# Altium footprint library Power.PcbLib: 23 footprints (part 2 of 2)
Each footprint in its own frame and in the unit in brackets; x right, y up, seen from the top. Pads: shape width x height; smd on the part's side, far side on the other; paste and mask are expansions set on the pad; w line width, h text height; cw(c..) or ccw(c..) is an arc to the next point about the centre after c.
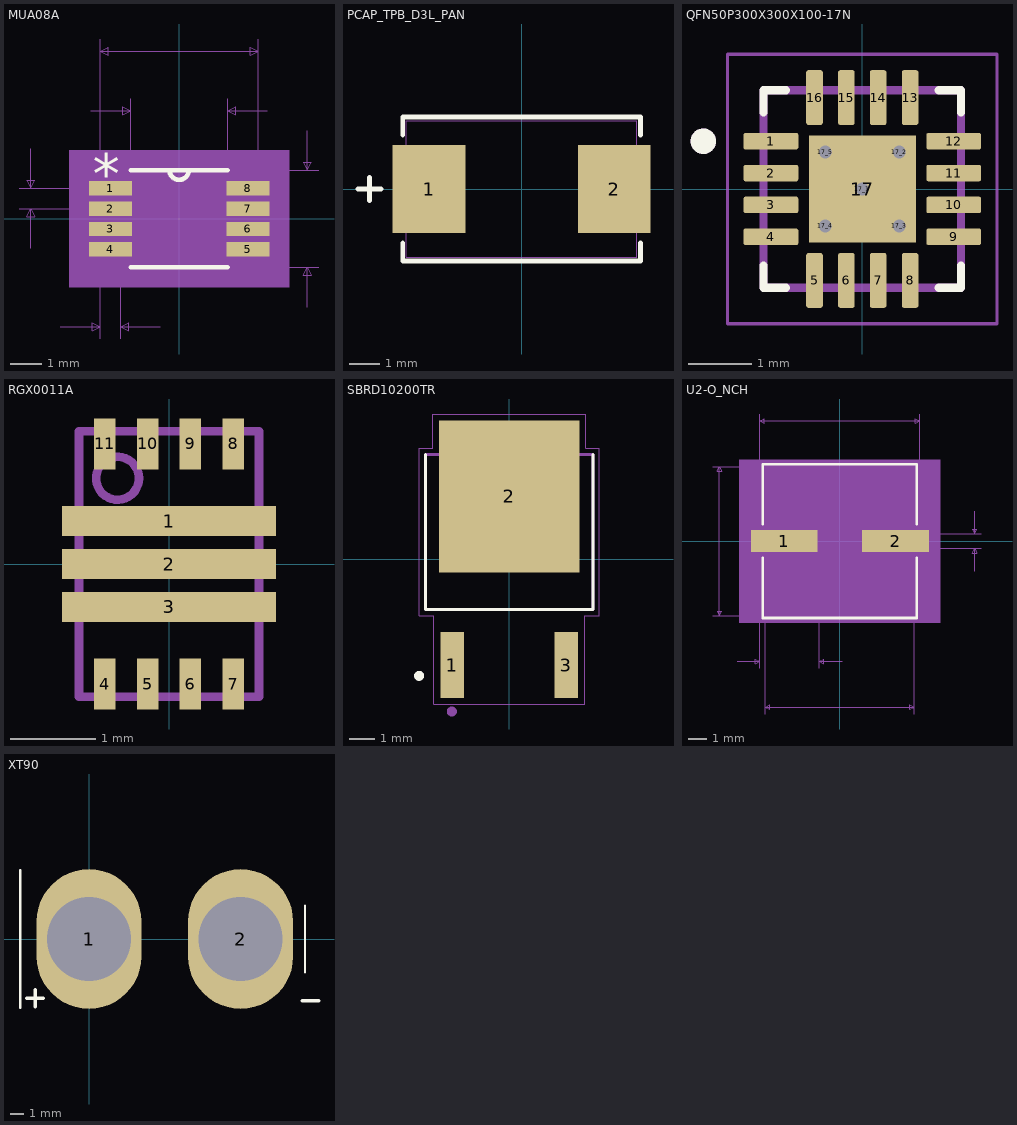
[diagram p1: the footprints below, top view; thin cyan lines are the x and y axes]

## MUA08A [mil]
pads (8):
  rect 54x18 smd mask+4: 1(-86.5,38.39) 2(-86.5,12.8) 3(-86.5,-12.8) 4(-86.5,-38.39) 5(86.5,-38.39) 6(86.5,-12.8) 7(86.5,12.8) 8(86.5,38.39)
Top Overlay:
  lines w6: -61,-61 61,-61 ; -61,61 61,61 ; -12,61 ccw(c0,61) 12,61
  text "*" at -109,32.39 h50
Mechanical 5:
  region: 138.5,-86 -138.5,-86 -138.5,86 138.5,86
Mechanical 7:
  lines w1: -201.5,12.8 -86.5,12.8 ; -201.5,38.39 -86.5,38.39 ; -186.5,-37.2 -186.5,12.8 ; -186.5,88.39 -186.5,38.39 ; -149.5,-136 -99.5,-136 ; -111,136 -61,136 ; -99.5,-151 -99.5,0 -99.5,226 ; -73.5,-151 -73.5,0 ; -61,0 -61,151 ; -23.5,-136 -73.5,-136 ; 0,-61 176,-61 ; 0,61 176,61 ; 61,0 61,151 ; 99.5,0 99.5,226 ; 111,136 61,136 ; 161,-111 161,-61 ; 161,111 161,61 ; -186.5,12.8 -191.5,2.8 -181.5,2.8 -186.5,12.8 ; -186.5,38.39 -191.5,48.39 -181.5,48.39 -186.5,38.39 ; -99.5,-136 -109.5,-131 -109.5,-141 -99.5,-136 ; -99.5,211 99.5,211 ; -99.5,211 -89.5,216 -89.5,206 -99.5,211 ; -73.5,-136 -63.5,-131 -63.5,-141 -73.5,-136 ; -61,136 -71,141 -71,131 -61,136 ; 61,136 71,141 71,131 61,136 ; 99.5,211 89.5,216 89.5,206 99.5,211 ; 161,-61 156,-71 166,-71 161,-61 ; 161,61 156,71 166,71 161,61
  text "Default Padstyle: RX54Y18D0T" at -350,-261 h50
  text ".122in/3.099mm" at -87.5,156 h25
  text ".199in/5.055mm" at -87.5,231 h25
  text ".122in/3.099mm" at 181,-12.5 h25
  text "2.559055E-02in/.65mm" at -456.5,13.09 h25
  text ".026in/.66mm" at -161.5,-181 h25
Mechanical 13:
  lines w0: -12,61 ccw(c0,61) 12,61
  lines w1: -99.5,-46.39 -99.5,-30.39 -61,-30.39 -61,-46.39 -99.5,-46.39 ; -99.5,-20.8 -99.5,-4.8 -61,-4.8 -61,-20.8 -99.5,-20.8 ; -99.5,4.8 -99.5,20.8 -61,20.8 -61,4.8 -99.5,4.8 ; -99.5,30.39 -99.5,46.39 -61,46.39 -61,30.39 -99.5,30.39 ; -61,-61 -61,61 61,61 61,-61 -61,-61 ; 61,-46.39 61,-30.39 99.5,-30.39 99.5,-46.39 61,-46.39 ; 61,-20.8 61,-4.8 99.5,-4.8 99.5,-20.8 61,-20.8 ; 61,4.8 61,20.8 99.5,20.8 99.5,4.8 61,4.8 ; 61,30.39 61,46.39 99.5,46.39 99.5,30.39 61,30.39
  text "*" at -109,32.39 h50
Mechanical 15:
  region: 123.5,-71 -123.5,-71 -123.5,71 123.5,71
  lines w6: -123.5,-71 -123.5,71 123.5,71 123.5,-71 -123.5,-71
3D body: height 10, standoff 0, extent 0,0 10,10

## PCAP_TPB_D3L_PAN [mil]
pads (2):
  rect 94.5x114 smd paste+0 mask+0: 1(-120.25,0) 2(120.25,0)
Top Overlay:
  lines w6: -212.5,0 -182.5,0 ; -197.5,-15 -197.5,15 ; -154.5,-70.1 -154.5,-93.5 154.5,-93.5 154.5,-70.1 ; -154.5,70.1 -154.5,93.5 154.5,93.5 154.5,70.1
Mechanical 13:
  lines w1: -212.5,0 -182.5,0 ; -197.5,-15 -197.5,15 ; -149.5,-88.5 149.5,-88.5 149.5,88.5 -149.5,88.5 -149.5,-88.5
3D body: height 10, standoff 0, extent 0,0 10,10
3D body "PCAP_TPB_D3L_PAN.step": height 118.49, standoff 0.5, extent -149.49,-88.58 149.49,88.59

## QFN50P300X300X100-17N [mm]
pads (22):
  rrect25% 0.86x0.26 smd mask+0: 1(-1.435,0.75) 2(-1.435,0.25) 3(-1.435,-0.25) 4(-1.435,-0.75) 9(1.435,-0.75) 10(1.435,-0.25) 11(1.435,0.25) 12(1.435,0.75)
  rrect25% 0.26x0.86 smd mask+0: 5(-0.75,-1.435) 6(-0.25,-1.435) 7(0.25,-1.435) 8(0.75,-1.435) 13(0.75,1.435) 14(0.25,1.435) 15(-0.25,1.435) 16(-0.75,1.435)
  rect 1.68x1.68 smd paste-2 mask+0: 17(0,0)
  round 0.3 hole 0.2: 17_1(0,0) 17_2(0.58,0.58) 17_3(0.58,-0.58) 17_4(-0.58,-0.58) 17_5(-0.58,0.58)
Top Overlay:
  circle w0.2: c-2.495,0.75 r0.1
  lines w0.127: -1.55,-1.2 -1.55,-1.55 -1.2,-1.55 ; -1.55,1.2 -1.55,1.55 -1.2,1.55 ; 1.2,-1.55 1.55,-1.55 1.55,-1.2 ; 1.2,1.55 1.55,1.55 1.55,1.2
Top Paste:
  region: 0.53,-0.53 -0.53,-0.53 -0.53,0.53 0.53,0.53
Mechanical 13:
  circle w0.2: c-2.495,0.75 r0.1
  lines w0.127: -1.55,-1.55 -1.55,1.55 1.55,1.55 1.55,-1.55 -1.55,-1.55
Mechanical 15:
  lines w0.05: -2.115,-2.115 -2.115,2.115 2.115,2.115 2.115,-2.115 -2.115,-2.115
3D body "RGT0016C.stp": height 1.01, standoff 0.01, extent -1.5,-1.5 1.5,1.5

## RGX0011A [mm]
pads (11):
  rect 2.5x0.35 smd paste-1.237 mask-0.051: 1(0,0.5) 2(0,0) 3(0,-0.5)
  rect 0.25x0.6 smd paste+0 mask+0: 4(-0.75,-1.4) 5(-0.25,-1.4) 6(0.25,-1.4) 7(0.75,-1.4) 8(0.75,1.4) 9(0.25,1.4) 10(-0.25,1.4) 11(-0.75,1.4)
Top Paste:
  drawing of 9 lines, arcs and shapes, not listed
Mechanical 13:
  circle w0.1: c-0.6,1 r0.25
  lines w0.1: -1.05,-1.55 -1.05,1.55 1.05,1.55 1.05,-1.55 -1.05,-1.55
  text ".Designator" at 2.159,-0.509 h1.27
3D body "RGX0011A.stp": height 1.01, standoff 0.01, extent -1,-1.5 1,1.5

## SBRD10200TR [mm]
pads (3):
  rect 0.95x2.64 smd: 1(-2.286,-4.24) 3(2.286,-4.24)
  rect 5.63x6.09 smd: 2(0,2.51)
Top Overlay:
  circle w0.2: c-3.607,-4.674 r0.1
  lines w0.127: -3.35,4.185 -3.35,-2.015 3.35,-2.015 3.35,4.185
Bottom Overlay:
  lines w0.127: 3.35,-2.015 3.35,4.185
Top Paste:
  region: 1.225,3.24 2.535,3.24 2.535,1.78 1.225,1.78
  region: 1.225,5.27 2.535,5.27 2.535,3.81 1.225,3.81
  region: 1.225,1.21 2.535,1.21 2.535,-0.25 1.225,-0.25
  region: -2.535,1.21 -1.225,1.21 -1.225,-0.25 -2.535,-0.25
  region: -2.535,3.24 -1.225,3.24 -1.225,1.78 -2.535,1.78
  region: -2.535,5.27 -1.225,5.27 -1.225,3.81 -2.535,3.81
  region: -0.655,1.21 0.655,1.21 0.655,-0.25 -0.655,-0.25
  region: -0.655,5.27 0.655,5.27 0.655,3.81 -0.655,3.81
  region: -0.655,3.24 0.655,3.24 0.655,1.78 -0.655,1.78
Mechanical 4:
  circle w0.2: c-2.3,-6.1 r0.1
  circle w0.2: c-2.3,-6.1 r0.1
  lines w0.127: -3.35,-2.015 -3.35,4.185 ; -3.35,-2.015 3.35,-2.015 ; -3.35,-2.015 -3.35,4.185 ; -3.35,-2.015 3.35,-2.015 ; -3.35,4.185 3.35,4.185 ; -3.35,4.185 3.35,4.185 ; 3.35,-2.015 3.35,4.185 ; 3.35,-2.015 3.35,4.185
Mechanical 16:
  lines w0.05: -3.6,-2.27 -3.02,-2.27 -3.02,-5.81 3.02,-5.81 3.02,-2.27 3.6,-2.27 3.6,4.44 3.065,4.44 3.065,5.81 -3.065,5.81 -3.065,4.44 -3.6,4.44 -3.6,-2.27

## U2-O_NCH [mil]
pads (2):
  rect 146x48 smd paste+0 mask+0: 1(-122,0) 2(122,0)
Top Overlay:
  lines w6: -168.5,-37.1 -168.5,-168.5 168.5,-168.5 168.5,-37.1 ; -168.5,37.1 -168.5,168.5 168.5,168.5 168.5,37.1
Mechanical 5:
  region: 220,-178.5 -220,-178.5 -220,178.5 220,178.5
Mechanical 7:
  lines w1: -278.5,-163.5 -163.5,-163.5 -163.5,-378.5 ; -278.5,163.5 -163.5,163.5 ; -225,-263.5 -175,-263.5 ; -175,-278.5 -175,-34 ; -175,34 -175,278.5 ; -45,-278.5 -45,-14 ; 5,-263.5 -45,-263.5 ; 163.5,-378.5 163.5,-163.5 ; 175,34 175,278.5 ; 205,-16 310,-16 ; 205,16 310,16 ; 295,-66 295,-16 ; 295,66 295,16 ; -263.5,-163.5 -263.5,163.5 ; -263.5,-163.5 -268.5,-153.5 -258.5,-153.5 -263.5,-163.5 ; -263.5,163.5 -268.5,153.5 -258.5,153.5 -263.5,163.5 ; -175,-263.5 -185,-258.5 -185,-268.5 -175,-263.5 ; -175,263.5 175,263.5 ; -175,263.5 -165,268.5 -165,258.5 -175,263.5 ; -163.5,-363.5 163.5,-363.5 ; -163.5,-363.5 -153.5,-358.5 -153.5,-368.5 -163.5,-363.5 ; -45,-263.5 -35,-258.5 -35,-268.5 -45,-263.5 ; 163.5,-363.5 153.5,-358.5 153.5,-368.5 163.5,-363.5 ; 175,263.5 165,268.5 165,258.5 175,263.5 ; 295,-16 290,-26 300,-26 295,-16 ; 295,16 290,26 300,26 295,16
  text "Default Padstyle: RX146Y48D0T" at -362.5,-451 h50
  text "Alternate 1 Padstyle: OX60Y90D30P" at -412.5,-551 h50
  text "Alternate 2 Padstyle: OX90Y60D30P" at -412.5,-651 h50
  text "0.032in/0.813mm" at 315,-12.5 h25
  text "0.35in/8.89mm" at -81.25,283.5 h25
  text "0.327in/8.306mm" at -471,-12.5 h25
  text "0.13in/3.302mm" at -197.5,-308.5 h25
  text "0.327in/8.306mm" at -93.75,-408.5 h25
Mechanical 13:
  lines w1: -163.5,-81.75 -81.75,-163.5 ; -163.5,81.75 -81.75,163.5 ; -163.5,-163.5 163.5,-163.5 163.5,163.5 -163.5,163.5 -163.5,-163.5
Mechanical 15:
  region: -173.5,-34 -205,-34 -205,34 -173.5,34 -173.5,173.5 173.5,173.5 173.5,34 205,34 205,-34 173.5,-34 173.5,-173.5 -173.5,-173.5
  lines w6: -205,-34 -205,34 -173.5,34 -173.5,173.5 173.5,173.5 173.5,34 205,34 205,-34 173.5,-34 173.5,-173.5 -173.5,-173.5 -173.5,-34 -205,-34
3D body: height 10, standoff 0, extent 0,0 10,10

## XT90 [mil]
pads (2):
  oval 300x400 / inner round 50 / far side oval 300x400 hole 240: 1(0,0)
  oval 300x400 / inner round 150 / far side oval 300x400 hole 240: 2(433.07,0)
Top Overlay:
  lines w7: -197,-197 -197,0 -197,197 ; 617,-94.68 617,95
  lines w9.84: -178,-169 -130,-169 ; -154,-193 -154,-145 ; 609,-176 657,-176
3D body "XT90 Connector v5.STEP": height 827.27, standoff -196.35, extent -210,-205.63 632.52,215.63